# Altium schematic symbol library SN74HC191.SchLib: 1 symbol
Pins are listed as number, name and electrical type; pins without a type are passive.

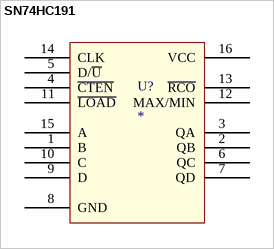
[diagram p0: symbol SN74HC191]

## SN74HC191
designator U?
pins: 1 B, 2 QB, 3 QA, 4 ~{CTEN}, 5 D/~{U}, 6 QC, 7 QD, 8 GND (power), 9 D, 10 C, 11 ~{LOAD}, 12 MAX/MIN, 13 ~{RCO}, 14 CLK, 15 A, 16 VCC (power)